# EAGLE library part ADE7754 (library ADE7754)
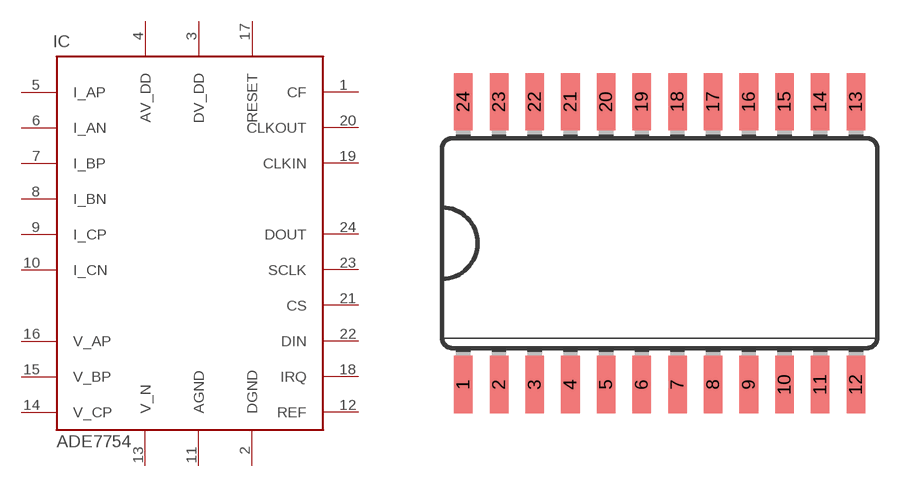
[diagram p0: symbol with the pads of SO24L; footprint SO24L]

Designator prefix IC

## ADE7754  [SO24L]
1  CF
2  DGND
3  DV_DD
4  AV_DD
5  I_AP
6  I_AN
7  I_BP
8  I_BN
9  I_CP
10  I_CN
11  AGND
12  REF
13  V_N
14  V_CP
15  V_BP
16  V_AP
17  RESET
18  IRQ
19  CLKIN
20  CLKOUT
21  CS
22  DIN
23  SCLK
24  DOUT

## Footprint SO24L (pad centres in mm)
Small Outline package large
smd 0.66 x 2.032: 1 -6.985,-5.029; 2 -5.715,-5.029; 3 -4.445,-5.029; 4 -3.175,-5.029; 5 -1.905,-5.029; 6 -0.635,-5.029; 7 0.635,-5.029; 8 1.905,-5.029; 9 3.175,-5.029; 10 4.445,-5.029; 11 5.715,-5.029; 12 6.985,-5.029; 13 6.985,5.029; 14 5.715,5.029; 15 4.445,5.029; 16 3.175,5.029; 17 1.905,5.029; 18 0.635,5.029; 19 -0.635,5.029; 20 -1.905,5.029; 21 -3.175,5.029; 22 -4.445,5.029; 23 -5.715,5.029; 24 -6.985,5.029